# Altium footprint library NIXIE_N.PcbLib: 69 footprints (part 5 of 5)
Each footprint in its own frame and in the unit in brackets; x right, y up, seen from the top. Pads: shape width x height; smd on the part's side, far side on the other; paste and mask are expansions set on the pad; w line width, h text height; cw(c..) or ccw(c..) is an arc to the next point about the centre after c.
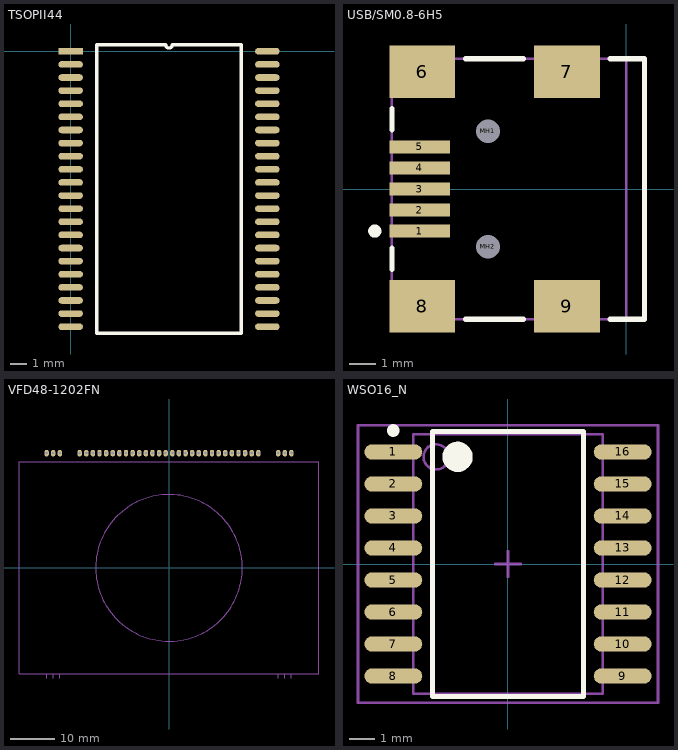
[diagram p4: the footprints below, top view; thin cyan lines are the x and y axes]

## TSOPII44 [mm]
height 2
pads (44):
  rect 1.5x0.4 smd: 1(0,0)
  oval 1.5x0.4 smd: 2(0,-0.8) 3(0,-1.6) 4(0,-2.4) 5(0,-3.2) 6(0,-4) 7(0,-4.8) 8(0,-5.6) 9(0,-6.4) 10(0,-7.2) 11(0,-8) 12(0,-8.8) 13(0,-9.6) 14(0,-10.4) 15(0,-11.2) 16(0,-12) 17(0,-12.8) 18(0,-13.6) 19(0,-14.4) 20(0,-15.2) 21(0,-16) 22(0,-16.8) 23(12,-16.8) 24(12,-16) 25(12,-15.2) 26(12,-14.4) 27(12,-13.6) 28(12,-12.8) 29(12,-12) 30(12,-11.2) 31(12,-10.4) 32(12,-9.6) 33(12,-8.8) 34(12,-8) 35(12,-7.2) 36(12,-6.4) 37(12,-5.6) 38(12,-4.8) 39(12,-4) 40(12,-3.2) 41(12,-2.4) 42(12,-1.6) 43(12,-0.8) 44(12,0)
Top Overlay:
  lines w0.2: 1.585,-17.2 10.415,-17.2 10.415,0.4 6.2,0.4 cw(c6,0.4) 5.8,0.4 1.585,0.4 1.585,-17.2

## USB/SM0.8-6H5 [mm] "Connector; USB2.0, Type B, SM; 5 Position; Right Angle"
height 3.9
pads (11):
  rect 2.3x0.5 smd: 1(-7.85,-1.6) 2(-7.85,-0.8) 3(-7.85,0) 4(-7.85,0.8) 5(-7.85,1.6)
  rect 2.5x2 smd: 6(-7.75,4.45) 7(-2.25,4.45) 8(-7.75,-4.45) 9(-2.25,-4.45)
  round 0.6 hole 0.9 unplated: MH1(-5.25,2.2) MH2(-5.25,-2.2)
Top Overlay:
  circle w0.25: c-9.55,-1.6 r0.125
  lines w0.2: -8.9,-3.05 -8.9,-2.25 ; -8.9,2.25 -8.9,3.05 ; -6.1,-4.95 -3.9,-4.95 ; -6.1,4.95 -3.9,4.95 ; -0.6,-4.95 0.7,-4.95 0.7,4.95 -0.6,4.95
Mechanical 1:
  lines w0.1: 0,-4.95 0,4.95
  text "PCB Edge" at 0.432,-4.036 h0.25
Mechanical 13:
  lines w0.1: -8.9,-4.95 0.7,-4.95 0.7,4.95 -8.9,4.95 -8.9,-4.95
3D body: height 3.9, standoff 0, extent -8.9,-4.95 0.7,4.95

## VFD48-1202FN [mm]
pads (34):
  oval 1x1.5 hole 0.7: 1(-27.75,26) 2(-26.25,26) 3(-24.75,26) 4(-20.25,26) 5(-18.75,26) 6(-17.25,26) 7(-15.75,26) 8(-14.25,26) 9(-12.75,26) 10(-11.25,26) 11(-9.75,26) 12(-8.25,26) 13(-6.75,26) 14(-5.25,26) 15(-3.75,26) 16(-2.25,26) 17(-0.75,26) 18(0.75,26) 19(2.25,26) 20(3.75,26) 21(5.25,26) 22(6.75,26) 23(8.25,26) 24(9.75,26) 25(11.25,26) 26(12.75,26) 27(14.25,26) 28(15.75,26) 29(17.25,26) 30(18.75,26) 31(20.25,26) 32(24.75,26) 33(26.25,26) 34(27.75,26)
Mechanical 1:
  circle w0.254: c0,0 r16.625
  lines w0.254: -27.75,-25 -27.75,-24 ; -26.25,-25 -26.25,-24 ; -24.75,-25 -24.75,-24 ; 24.75,-25 24.75,-24 ; 26.25,-25 26.25,-24 ; 27.75,-25 27.75,-24 ; -34,-24 34,-24 34,24 -34,24 -34,-24
3D body: height 20, standoff 11.5, extent -34,-24 34,24

## WSO16_N [mm] "SOIC, 16-Leads, Body 10.3x7.5mm, Pitch 1.27mm, IPC Medium Density"
height 2.65
pads (16):
  oval 2.3x0.6 smd: 1(-4.55,4.445) 2(-4.55,3.175) 3(-4.55,1.905) 4(-4.55,0.635) 5(-4.55,-0.635) 6(-4.55,-1.905) 7(-4.55,-3.175) 8(-4.55,-4.445) 9(4.55,-4.445) 10(4.55,-3.175) 11(4.55,-1.905) 12(4.55,-0.635) 13(4.55,0.635) 14(4.55,1.905) 15(4.55,3.175) 16(4.55,4.445)
Top Overlay:
  circle w0.25: c-4.55,5.295 r0.125
  circle w0.6: c-2,4.25 r0.3
  lines w0.2: -3,-5.25 -3,5.25 3,5.25 3,-5.25 -3,-5.25
Mechanical 13:
  circle w0.1: c-2.85,4.25 r0.5
  lines w0.1: -3.75,-5.15 -3.75,5.15 3.75,5.15 3.75,-5.15 -3.75,-5.15
Mechanical 15:
  lines w0.1: -0.5,0 0.5,0 ; 0,-0.5 0,0.5 ; -5.95,-5.5 -5.95,5.5 5.95,5.5 5.95,-5.5 -5.95,-5.5
3D body: height 2.65, standoff 0, extent -3.75,-5.15 3.75,5.15

## 固定过孔 [mm]
height 1.1
via 0,2.108 diameter 0.5 hole 0.5
via 0,0 diameter 5 hole 3.5
via 0,-2.108 diameter 0.5 hole 0.5
via 2.108,0 diameter 0.5 hole 0.5
via -2.108,0 diameter 0.5 hole 0.5
via 1.502,1.502 diameter 0.5 hole 0.5
via -1.502,1.502 diameter 0.5 hole 0.5
via -1.502,-1.502 diameter 0.5 hole 0.5
via 1.502,-1.502 diameter 0.5 hole 0.5